# Altium footprint library CORE28335.PcbLib: 24 footprints (part 2 of 2)
Each footprint in its own frame and in the unit in brackets; x right, y up, seen from the top. Pads: shape width x height; smd on the part's side, far side on the other; paste and mask are expansions set on the pad; w line width, h text height; cw(c..) or ccw(c..) is an arc to the next point about the centre after c.
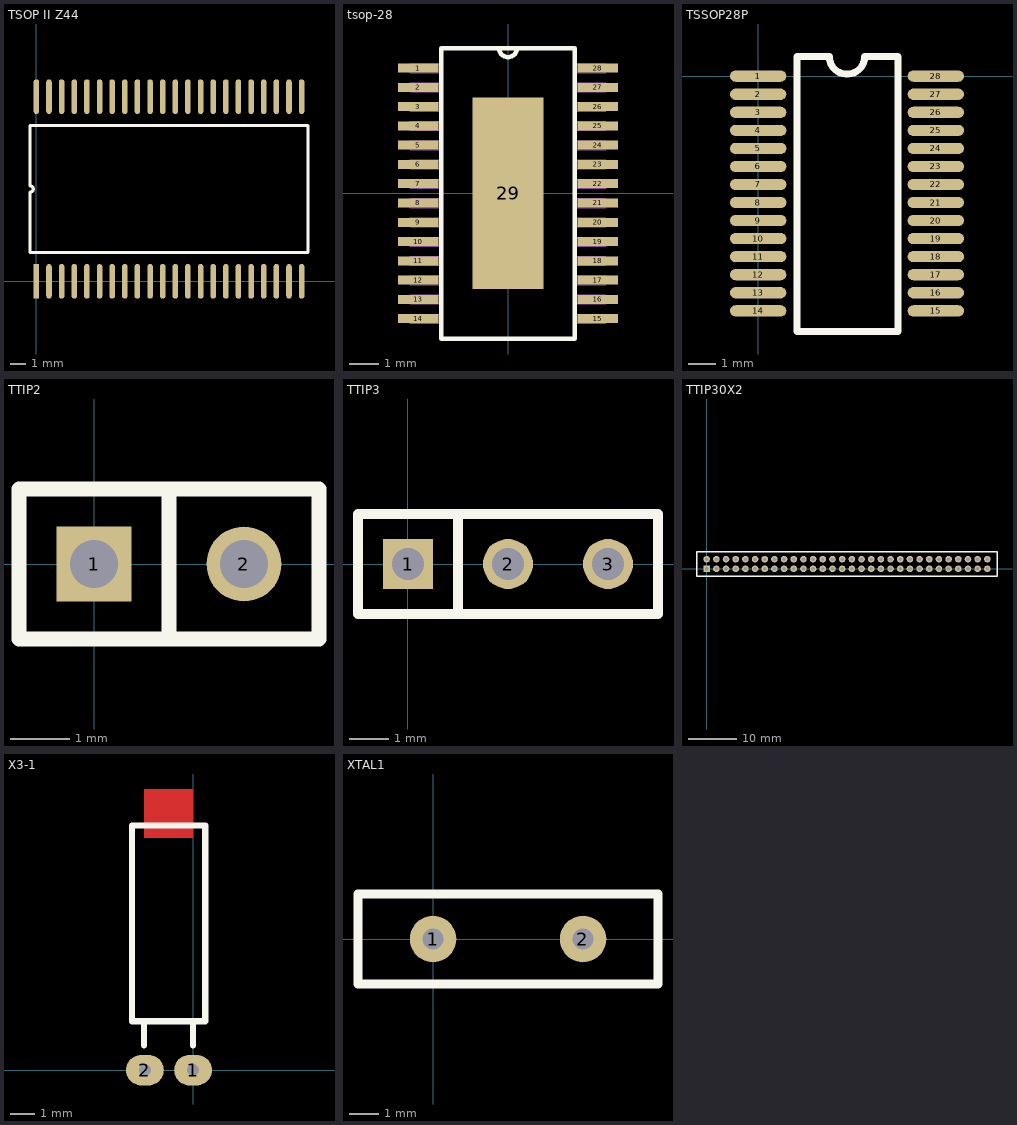
[diagram p1: the footprints below, top view; thin cyan lines are the x and y axes]

## TSOP II Z44 [mm]
pads (44):
  rect 0.35x2.2 smd: 1(0,0)
  oval 0.35x2.2 smd: 2(0.8,0) 3(1.6,0) 4(2.4,0) 5(3.2,0) 6(4,0) 7(4.8,0) 8(5.6,0) 9(6.4,0) 10(7.2,0) 11(8,0) 12(8.8,0) 13(9.6,0) 14(10.4,0) 15(11.2,0) 16(12,0) 17(12.8,0) 18(13.6,0) 19(14.4,0) 20(15.2,0) 21(16,0) 22(16.8,0) 23(16.8,11.7) 24(16,11.7) 25(15.2,11.7) 26(14.4,11.7) 27(13.6,11.7) 28(12.8,11.7) 29(12,11.7) 30(11.2,11.7) 31(10.4,11.7) 32(9.6,11.7) 33(8.8,11.7) 34(8,11.7) 35(7.2,11.7) 36(6.4,11.7) 37(5.6,11.7) 38(4.8,11.7) 39(4,11.7) 40(3.2,11.7) 41(2.4,11.7) 42(1.6,11.7) 43(0.8,11.7) 44(0,11.7)
Top Overlay:
  lines w0.2: -0.4,1.835 -0.4,5.65 ccw(c-0.4,5.85) -0.4,6.05 -0.4,9.865 17.2,9.865 17.2,1.835 -0.4,1.835

## tsop-28 [mil]
pads (29):
  rect 54x12 smd: 1(-119,166.34) 2(-119,140.75) 3(-119,115.16) 4(-119,89.57) 5(-119,63.98) 6(-119,38.39) 7(-119,12.8) 8(-119,-12.8) 9(-119,-38.39) 10(-119,-63.98) 11(-119,-89.57) 12(-119,-115.16) 13(-119,-140.75) 14(-119,-166.34) 15(119,-166.34) 16(119,-140.75) 17(119,-115.16) 18(119,-89.57) 19(119,-63.98) 20(119,-38.39) 21(119,-12.8) 22(119,12.8) 23(119,38.39) 24(119,63.98) 25(119,89.57) 26(119,115.16) 27(119,140.75) 28(119,166.34)
  rect 94.49x254.33 smd: 29(0,0)
Top Overlay:
  lines w6: -12,192.91 ccw(c0,192.91) 12,192.91 ; -88.5,-192.91 -88.5,192.91 88.5,192.91 88.5,-192.91 -88.5,-192.91
Mechanical 1:
  lines w0: -12,192.91 ccw(c0,192.91) 12,192.91 ; 130,-44.39 88.5,-44.39 88.5,-32.39 130,-32.39 ; 130,-18.8 88.5,-18.8 88.5,-6.8 130,-6.8 ; -130,-172.34 -130,-160.34 -88.5,-160.34 -88.5,-172.34 -130,-172.34 ; -130,-146.75 -130,-134.75 -88.5,-134.75 -88.5,-146.75 -130,-146.75 ; -130,-121.16 -130,-109.16 -88.5,-109.16 -88.5,-121.16 -130,-121.16 ; -130,-95.57 -130,-83.57 -88.5,-83.57 -88.5,-95.57 -130,-95.57 ; -130,-69.98 -130,-57.98 -88.5,-57.98 -88.5,-69.98 -130,-69.98 ; -130,-44.39 -130,-32.39 -88.5,-32.39 -88.5,-44.39 -130,-44.39 ; -130,-18.8 -130,-6.8 -88.5,-6.8 -88.5,-18.8 -130,-18.8 ; -130,6.8 -130,18.8 -88.5,18.8 -88.5,6.8 -130,6.8 ; -130,32.39 -130,44.39 -88.5,44.39 -88.5,32.39 -130,32.39 ; -130,57.98 -130,69.98 -88.5,69.98 -88.5,57.98 -130,57.98 ; -130,83.57 -130,95.57 -88.5,95.57 -88.5,83.57 -130,83.57 ; -130,109.16 -130,121.16 -88.5,121.16 -88.5,109.16 -130,109.16 ; -130,134.75 -130,146.75 -88.5,146.75 -88.5,134.75 -130,134.75 ; -130,160.34 -130,172.34 -88.5,172.34 -88.5,160.34 -130,160.34 ; -88.5,-192.91 88.5,-192.91 88.5,192.91 -88.5,192.91 -88.5,-192.91 ; 88.5,-172.34 88.5,-160.34 130,-160.34 130,-172.34 88.5,-172.34 ; 88.5,-146.75 88.5,-134.75 130,-134.75 130,-146.75 88.5,-146.75 ; 88.5,-121.16 88.5,-109.16 130,-109.16 130,-121.16 88.5,-121.16 ; 88.5,-95.57 88.5,-83.57 130,-83.57 130,-95.57 88.5,-95.57 ; 88.5,-69.98 88.5,-57.98 130,-57.98 130,-69.98 88.5,-69.98 ; 88.5,6.8 88.5,18.8 130,18.8 130,6.8 88.5,6.8 ; 88.5,32.39 88.5,44.39 130,44.39 130,32.39 88.5,32.39 ; 88.5,57.98 88.5,69.98 130,69.98 130,57.98 88.5,57.98 ; 88.5,83.57 88.5,95.57 130,95.57 130,83.57 88.5,83.57 ; 88.5,109.16 88.5,121.16 130,121.16 130,109.16 88.5,109.16 ; 88.5,134.75 88.5,146.75 130,146.75 130,134.75 88.5,134.75 ; 88.5,160.34 88.5,172.34 130,172.34 130,160.34 88.5,160.34

## TSSOP28P [mm]
pads (28):
  oval 2.032x0.4 smd: 1(0,0) 2(0,-0.65) 3(0,-1.3) 4(0,-1.95) 5(0,-2.6) 6(0,-3.25) 7(0,-3.9) 8(0,-4.55) 9(0,-5.2) 10(0,-5.85) 11(0,-6.5) 12(0,-7.15) 13(0,-7.8) 14(0,-8.45) 15(6.4,-8.45) 16(6.4,-7.8) 17(6.4,-7.15) 18(6.4,-6.5) 19(6.4,-5.85) 20(6.4,-5.2) 21(6.4,-4.55) 22(6.4,-3.9) 23(6.4,-3.25) 24(6.4,-2.6) 25(6.4,-1.95) 26(6.4,-1.3) 27(6.4,-0.65) 28(6.4,0)
Top Overlay:
  lines w0.254: 1.397,-9.195 1.397,0.705 2.565,0.705 ccw(c3.2,0.705) 3.835,0.705 5.029,0.705 5.029,-9.195 1.397,-9.195

## TTIP2 [mil]
pads (2):
  rect 50x50 hole 32: 1(0,0.01)
  round 50 hole 32: 2(100,0.01)
Top Overlay:
  lines w10: 50,-49.99 50,50.01 ; -50,-49.99 150,-49.99 150,50.01 -50,50.01 -50,-49.99

## TTIP3 [mil]
pads (3):
  rect 50x50 hole 32: 1(0.28,0.28)
  round 50 hole 32: 2(100.28,0.28) 3(200.28,0.28)
Top Overlay:
  lines w10: 50.27,-49.72 50.27,50.28 ; -49.73,-49.72 250.28,-49.72 250.28,50.28 -49.73,50.28 -49.73,-49.72

## TTIP30X2 [mm]
pads (60):
  rect 1.36x1.36 hole 0.787: 1(0,0)
  round 1.36 hole 0.787: 2(0,2) 3(2,0) 4(2,2) 5(4,0) 6(4,2) 7(6,0) 8(6,2) 9(8,0) 10(8,2) 11(10,0) 12(10,2) 13(12,0) 14(12,2) 15(14,0) 16(14,2) 17(16,0) 18(16,2) 19(18,0) 20(18,2) 21(20,0) 22(20,2) 23(22,0) 24(22,2) 25(24,0) 26(24,2) 27(26,0) 28(26,2) 29(28,0) 30(28,2) 31(30,0) 32(30,2) 33(32,0) 34(32,2) 35(34,0) 36(34,2) 37(36,0) 38(36,2) 39(38,0) 40(38,2) 41(40,0) 42(40,2) 43(42,0) 44(42,2) 45(44,0) 46(44,2) 47(46,0) 48(46,2) 49(48,0) 50(48,2) 51(50,0) 52(50,2) 53(52,0) 54(52,2) 55(54,0) 56(54,2) 57(56,0) 58(56,2) 59(58,0) 60(58,2)
Top Overlay:
  lines w0.305: 60,3.492 60,-1.5 -2,-1.5 -2,3.5 60,3.5

## X3-1 [mm]
pads (2):
  oval 1.57x1.27 hole 0.5: 1(0,0.007) 2(-2,0.007)
Top Layer:
  region: 0,11.691 -2.032,11.691 -2.032,9.659 0,9.659
Top Overlay:
  lines w0.254: -2.032,1.023 -2.032,2.039 ; 0,1.023 0,2.039 ; -2.54,2.039 0.508,2.039 0.508,10.167 -2.54,10.167 -2.54,2.039

## XTAL1 [mil]
pads (2):
  round 62 hole 28: 1(0,0.28) 2(200,0.28)
Top Overlay:
  lines w12: -100,-59.72 300,-59.72 300,60.28 -100,60.28 -100,-59.72